# Altium integrated library NSC LDO.IntLib: 2590 symbols (part 4 of 64)
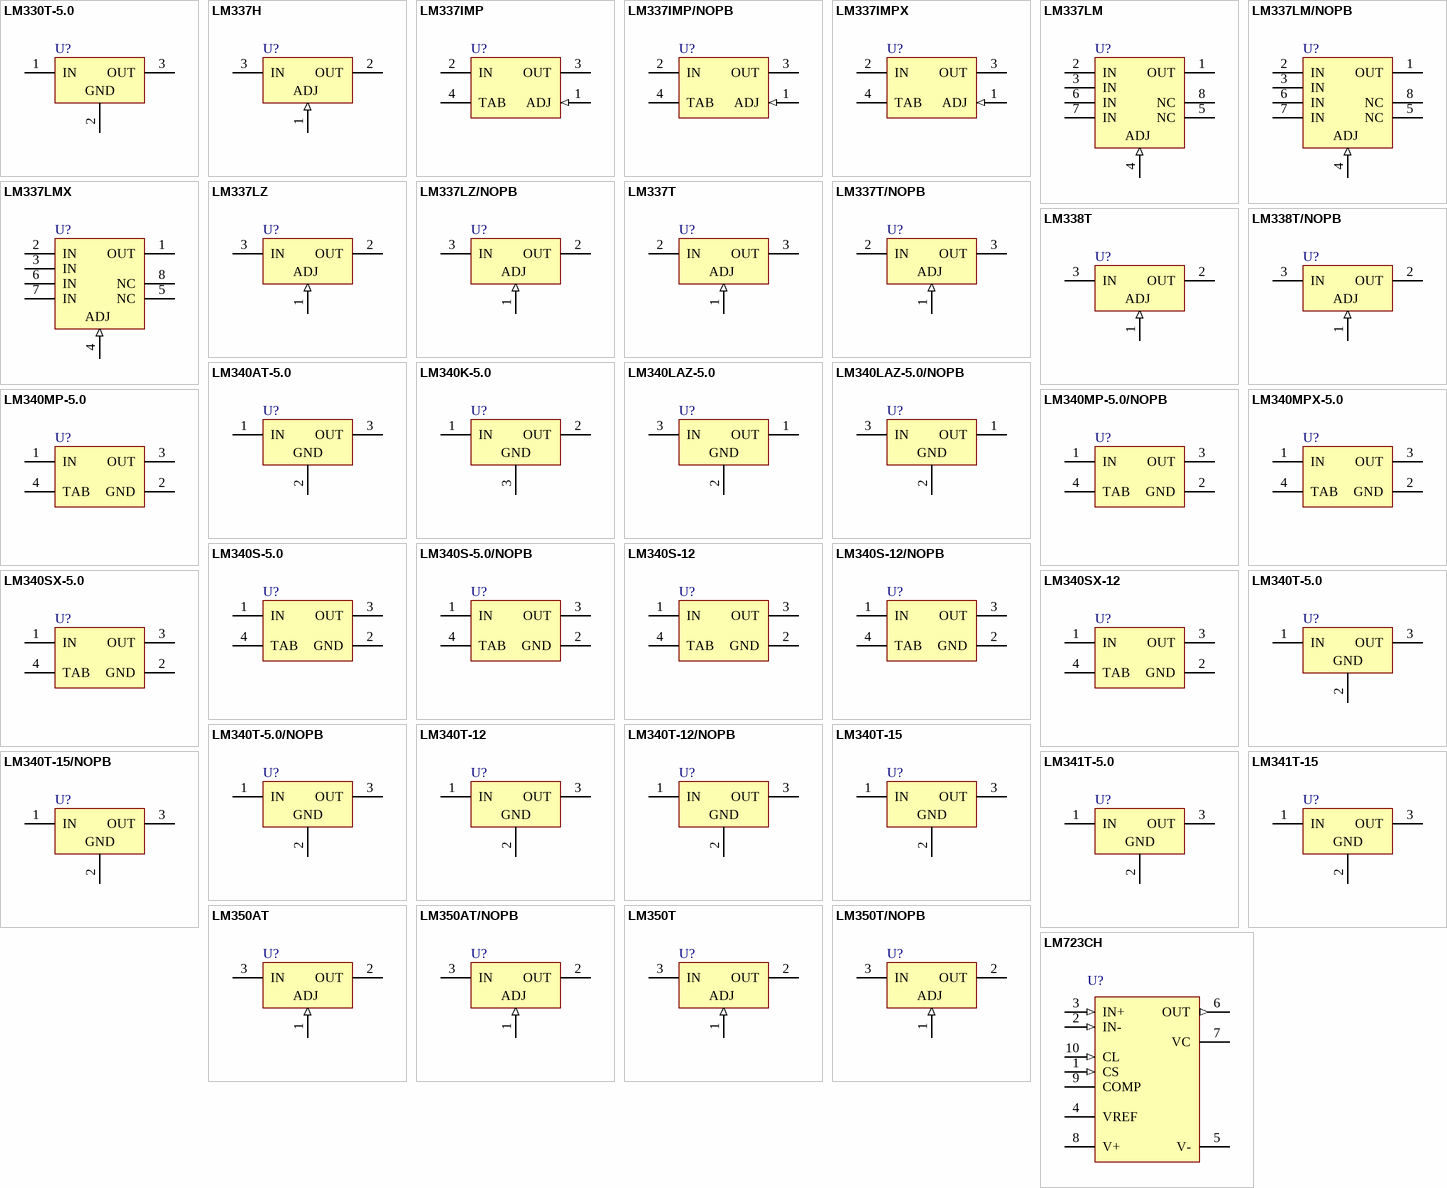
[diagram p68: symbols LM330T-5.0 to LM723CH]

## LM340S-12
designator U?
Series 3-Terminal Positive Regulators, 3-pin TO-263; PartNumber: LM340S-12; Manufacturer: National Semiconductor; PackageTopMarking: NSUZXYTTE#*LM340S*-12 P+; PowerWise: N; CompType: LDO IC; Published: 4-Dec-2008; DatasheetVersion: Jul-2006; PackageVersion: revF, Apr-2005; PackageReference: TS3B; Publisher: Altium Limited; PackageDescription: TO-263, Molded, .400 x .390 x .180in, 3 Lead, .1in Pitch, Surface Mount; Supplier 1: Farnell; Supplier Part Number 1: 9494499; RoHS: N; PinCount: 3; Code_JEDEC: MO-169-AA; ComponentLink1Description: LM340 Datasheet; ComponentLink1URL: http://www.national.com/ds/LM/LM340.pdf; ComponentLink2Description: LM340 Web Page; ComponentLink2URL: http://www.national.com/pf/LM/LM340.html; ComponentLink3Description: TS3B Package Page; ComponentLink3URL: http://www.national.com/packaging/folders/ts3b.html
footprint TS3B_N (D2-PAK, 4-Leads, Body 8.6x10.2mm, Pitch 2.54mm, Lead Span 14.2mm, IPC Medium Density)
footprint TS3B_L (D2-PAK, 4-Leads, Body 8.6x10.2mm, Pitch 2.54mm, Lead Span 14.2mm, IPC High Density)
footprint TS3B_M (D2-PAK, 4-Leads, Body 8.6x10.2mm, Pitch 2.54mm, Lead Span 14.2mm, IPC Low Density)
pins: 1 IN (power), 2 GND (power), 3 OUT (power), 4 TAB (power)

## LM340S-12/NOPB
designator U?
Series 3-Terminal Positive Regulators, 3-pin TO-263, Pb-Free; PartNumber: LM340S-12/NOPB; Manufacturer: National Semiconductor; PackageTopMarking: NSUZXYTTE#*LM340S*-12 P+; PowerWise: N; CompType: LDO IC; Published: 1-Mar-2010; DatasheetVersion: Jul-2006; PackageVersion: revF, Apr-2005; PackageReference: TS3B; Publisher: Altium Limited; PackageDescription: TO-263, Molded, .400 x .390 x .180in, 3 Lead, .1in Pitch, Surface Mount; Supplier 1: Digi-Key; Supplier Part Number 1: LM340S-12-ND; Supplier 2: Farnell; Supplier Part Number 2: 1364496; RoHS: Y; PinCount: 3; Code_JEDEC: MO-169-AA; ComponentLink1Description: LM340 Datasheet; ComponentLink1URL: http://www.national.com/ds/LM/LM340.pdf; ComponentLink2Description: LM340 Web Page; ComponentLink2URL: http://www.national.com/pf/LM/LM340.html; ComponentLink3Description: TS3B Package Page; ComponentLink3URL: http://www.national.com/packaging/folders/ts3b.html
footprint TS3B_N (D2-PAK, 4-Leads, Body 8.6x10.2mm, Pitch 2.54mm, Lead Span 14.2mm, IPC Medium Density)
footprint TS3B_L (D2-PAK, 4-Leads, Body 8.6x10.2mm, Pitch 2.54mm, Lead Span 14.2mm, IPC High Density)
footprint TS3B_M (D2-PAK, 4-Leads, Body 8.6x10.2mm, Pitch 2.54mm, Lead Span 14.2mm, IPC Low Density)
pins: 1 IN (power), 2 GND (power), 3 OUT (power), 4 TAB (power)

## LM340SX-5.0
designator U?
Series 3-Terminal Positive Regulators, 3-pin TO-263; PartNumber: LM340SX-5.0; Manufacturer: National Semiconductor; PackageTopMarking: NSUZXYTTE#*LM340S*-5.0 P+; PowerWise: N; CompType: LDO IC; Published: 1-Mar-2010; DatasheetVersion: Jul-2006; PackageVersion: revF, Apr-2005; PackageReference: TS3B; Publisher: Altium Limited; PackageDescription: TO-263, Molded, .400 x .390 x .180in, 3 Lead, .1in Pitch, Surface Mount; RoHS: N; PinCount: 3; Code_JEDEC: MO-169-AA; ComponentLink1Description: LM340 Datasheet; ComponentLink1URL: http://www.national.com/ds/LM/LM340.pdf; ComponentLink2Description: LM340 Web Page; ComponentLink2URL: http://www.national.com/pf/LM/LM340.html; ComponentLink3Description: TS3B Package Page; ComponentLink3URL: http://www.national.com/packaging/folders/ts3b.html
footprint TS3B_N (D2-PAK, 4-Leads, Body 8.6x10.2mm, Pitch 2.54mm, Lead Span 14.2mm, IPC Medium Density)
footprint TS3B_L (D2-PAK, 4-Leads, Body 8.6x10.2mm, Pitch 2.54mm, Lead Span 14.2mm, IPC High Density)
footprint TS3B_M (D2-PAK, 4-Leads, Body 8.6x10.2mm, Pitch 2.54mm, Lead Span 14.2mm, IPC Low Density)
pins: 1 IN (power), 2 GND (power), 3 OUT (power), 4 TAB (power)

## LM340SX-12
designator U?
Series 3-Terminal Positive Regulators, 3-pin TO-263; PartNumber: LM340SX-12; Manufacturer: National Semiconductor; PackageTopMarking: NSUZXYTTE#*LM340S*-12 P+; PowerWise: N; CompType: LDO IC; Published: 1-Mar-2010; DatasheetVersion: Jul-2006; PackageVersion: revF, Apr-2005; PackageReference: TS3B; Publisher: Altium Limited; PackageDescription: TO-263, Molded, .400 x .390 x .180in, 3 Lead, .1in Pitch, Surface Mount; RoHS: N; PinCount: 3; Code_JEDEC: MO-169-AA; ComponentLink1Description: LM340 Datasheet; ComponentLink1URL: http://www.national.com/ds/LM/LM340.pdf; ComponentLink2Description: LM340 Web Page; ComponentLink2URL: http://www.national.com/pf/LM/LM340.html; ComponentLink3Description: TS3B Package Page; ComponentLink3URL: http://www.national.com/packaging/folders/ts3b.html
footprint TS3B_N (D2-PAK, 4-Leads, Body 8.6x10.2mm, Pitch 2.54mm, Lead Span 14.2mm, IPC Medium Density)
footprint TS3B_L (D2-PAK, 4-Leads, Body 8.6x10.2mm, Pitch 2.54mm, Lead Span 14.2mm, IPC High Density)
footprint TS3B_M (D2-PAK, 4-Leads, Body 8.6x10.2mm, Pitch 2.54mm, Lead Span 14.2mm, IPC Low Density)
pins: 1 IN (power), 2 GND (power), 3 OUT (power), 4 TAB (power)

## LM340T-5.0
designator U?
Series 3-Terminal Positive Regulators, 3-pin TO-220; PartNumber: LM340T-5.0; Manufacturer: National Semiconductor; PackageTopMarking: NSUZXYTTE#*LM340T5*7805 P+; PowerWise: N; CompType: LDO IC; Published: 4-Dec-2008; DatasheetVersion: Jul-2006; PackageVersion: revL, Jan-1992; PackageReference: T03B; Publisher: Altium Limited; PackageDescription: TO-220, Molded, 3 Lead, Straight; Supplier 1: Farnell; Supplier Part Number 1: 9490175; RoHS: N; PinCount: 3; ComponentLink1Description: LM340 Datasheet; ComponentLink1URL: http://www.national.com/ds/LM/LM340.pdf; ComponentLink2Description: LM340 Web Page; ComponentLink2URL: http://www.national.com/pf/LM/LM340.html; ComponentLink3Description: T03B Package Page; ComponentLink3URL: http://www.national.com/packaging/folders/t03b.html
footprint T03B (TO, Thru-Hole, Vertical, Heatsink Mounted; 3 In-Line Leads; Pitch 2.54 mm)
pins: 1 IN (power), 2 GND (power), 3 OUT (power)

## LM340T-5.0/NOPB
designator U?
Series 3-Terminal Positive Regulators, 3-pin TO-220, Pb-Free; PartNumber: LM340T-5.0/NOPB; Manufacturer: National Semiconductor; PackageTopMarking: NSUZXYTTE#*LM340T5*7805 P+; PowerWise: N; CompType: LDO IC; Published: 1-Mar-2010; DatasheetVersion: Jul-2006; PackageVersion: revL, Jan-1992; PackageReference: T03B; Publisher: Altium Limited; PackageDescription: TO-220, Molded, 3 Lead, Straight; Supplier 1: Digi-Key; Supplier Part Number 1: LM340T-5.0-ND; Supplier 2: Farnell; Supplier Part Number 2: 1150201; RoHS: Y; PinCount: 3; ComponentLink1Description: LM340 Datasheet; ComponentLink1URL: http://www.national.com/ds/LM/LM340.pdf; ComponentLink2Description: LM340 Web Page; ComponentLink2URL: http://www.national.com/pf/LM/LM340.html; ComponentLink3Description: T03B Package Page; ComponentLink3URL: http://www.national.com/packaging/folders/t03b.html
footprint T03B (TO, Thru-Hole, Vertical, Heatsink Mounted; 3 In-Line Leads; Pitch 2.54 mm)
pins: 1 IN (power), 2 GND (power), 3 OUT (power)

## LM340T-12
designator U?
Series 3-Terminal Positive Regulators, 3-pin TO-220; PartNumber: LM340T-12; Manufacturer: National Semiconductor; PackageTopMarking: NSUZXYTTE#*LM340T12*7812 P+; PowerWise: N; CompType: LDO IC; Published: 4-Dec-2008; DatasheetVersion: Jul-2006; PackageVersion: revL, Jan-1992; PackageReference: T03B; Publisher: Altium Limited; PackageDescription: TO-220, Molded, 3 Lead, Straight; Supplier 1: Farnell; Supplier Part Number 1: 9490280; Supplier 2: Farnell; Supplier Part Number 2: 1523856; RoHS: N; PinCount: 3; ComponentLink1Description: LM340 Datasheet; ComponentLink1URL: http://www.national.com/ds/LM/LM340.pdf; ComponentLink2Description: LM340 Web Page; ComponentLink2URL: http://www.national.com/pf/LM/LM340.html; ComponentLink3Description: T03B Package Page; ComponentLink3URL: http://www.national.com/packaging/folders/t03b.html
footprint T03B (TO, Thru-Hole, Vertical, Heatsink Mounted; 3 In-Line Leads; Pitch 2.54 mm)
pins: 1 IN (power), 2 GND (power), 3 OUT (power)

## LM340T-12/NOPB
designator U?
Series 3-Terminal Positive Regulators, 3-pin TO-220, Pb-Free; PartNumber: LM340T-12/NOPB; Manufacturer: National Semiconductor; PackageTopMarking: NSUZXYTTE#*LM340T12*7812 P+; PowerWise: N; CompType: LDO IC; Published: 1-Mar-2010; DatasheetVersion: Jul-2006; PackageVersion: revL, Jan-1992; PackageReference: T03B; Publisher: Altium Limited; PackageDescription: TO-220, Molded, 3 Lead, Straight; Supplier 1: Digi-Key; Supplier Part Number 1: LM340T-12-ND; Supplier 2: Farnell; Supplier Part Number 2: 1564656; RoHS: Y; PinCount: 3; ComponentLink1Description: LM340 Datasheet; ComponentLink1URL: http://www.national.com/ds/LM/LM340.pdf; ComponentLink2Description: LM340 Web Page; ComponentLink2URL: http://www.national.com/pf/LM/LM340.html; ComponentLink3Description: T03B Package Page; ComponentLink3URL: http://www.national.com/packaging/folders/t03b.html
footprint T03B (TO, Thru-Hole, Vertical, Heatsink Mounted; 3 In-Line Leads; Pitch 2.54 mm)
pins: 1 IN (power), 2 GND (power), 3 OUT (power)

## LM340T-15
designator U?
Series 3-Terminal Positive Regulators, 3-pin TO-220; PartNumber: LM340T-15; Manufacturer: National Semiconductor; PackageTopMarking: NSUZXYTTE#*LM340T15*7815 P+; PowerWise: N; CompType: LDO IC; Published: 4-Dec-2008; DatasheetVersion: Jul-2006; PackageVersion: revL, Jan-1992; PackageReference: T03B; Publisher: Altium Limited; PackageDescription: TO-220, Molded, 3 Lead, Straight; Supplier 1: Farnell; Supplier Part Number 1: 9490329; Supplier 2: Farnell; Supplier Part Number 2: 1523857; RoHS: N; PinCount: 3; ComponentLink1Description: LM340 Datasheet; ComponentLink1URL: http://www.national.com/ds/LM/LM340.pdf; ComponentLink2Description: LM340 Web Page; ComponentLink2URL: http://www.national.com/pf/LM/LM340.html; ComponentLink3Description: T03B Package Page; ComponentLink3URL: http://www.national.com/packaging/folders/t03b.html
footprint T03B (TO, Thru-Hole, Vertical, Heatsink Mounted; 3 In-Line Leads; Pitch 2.54 mm)
pins: 1 IN (power), 2 GND (power), 3 OUT (power)

## LM340T-15/NOPB
designator U?
Series 3-Terminal Positive Regulators, 3-pin TO-220, Pb-Free; PartNumber: LM340T-15/NOPB; Manufacturer: National Semiconductor; PackageTopMarking: NSUZXYTTE#*LM340T15*7815 P+; PowerWise: N; CompType: LDO IC; Published: 1-Mar-2010; DatasheetVersion: Jul-2006; PackageVersion: revL, Jan-1992; PackageReference: T03B; Publisher: Altium Limited; PackageDescription: TO-220, Molded, 3 Lead, Straight; Supplier 1: Digi-Key; Supplier Part Number 1: LM340T-15-ND; Supplier 2: Farnell; Supplier Part Number 2: 1469098; RoHS: Y; PinCount: 3; ComponentLink1Description: LM340 Datasheet; ComponentLink1URL: http://www.national.com/ds/LM/LM340.pdf; ComponentLink2Description: LM340 Web Page; ComponentLink2URL: http://www.national.com/pf/LM/LM340.html; ComponentLink3Description: T03B Package Page; ComponentLink3URL: http://www.national.com/packaging/folders/t03b.html
footprint T03B (TO, Thru-Hole, Vertical, Heatsink Mounted; 3 In-Line Leads; Pitch 2.54 mm)
pins: 1 IN (power), 2 GND (power), 3 OUT (power)

## LM341T-5.0
designator U?
3-Terminal Positive Voltage Regulators, 3-pin TO-220; PartNumber: LM341T-5.0; Manufacturer: National Semiconductor; PackageTopMarking: NSUZXYTTE#*LM341T-5.0*LM78M05CT; PowerWise: N; CompType: LDO IC; Published: 4-Dec-2008; DatasheetVersion: Nov-2005; PackageVersion: revL, Jan-1992; PackageReference: T03B; Publisher: Altium Limited; PackageDescription: TO-220, Molded, 3 Lead, Straight; RoHS: N; PinCount: 3; ComponentLink1Description: LM341 Datasheet; ComponentLink1URL: http://www.national.com/ds/LM/LM341.pdf; ComponentLink2Description: LM341 Web Page; ComponentLink2URL: http://www.national.com/pf/LM/LM341.html; ComponentLink3Description: T03B Package Page; ComponentLink3URL: http://www.national.com/packaging/folders/t03b.html
footprint T03B (TO, Thru-Hole, Vertical, Heatsink Mounted; 3 In-Line Leads; Pitch 2.54 mm)
pins: 1 IN (power), 2 GND (power), 3 OUT (power)

## LM341T-15
designator U?
3-Terminal Positive Voltage Regulators, 3-pin TO-220; PartNumber: LM341T-15; Manufacturer: National Semiconductor; PackageTopMarking: NSUZXYTTE#*LM341T-15*LM78M15CT; PowerWise: N; CompType: LDO IC; Published: 4-Dec-2008; DatasheetVersion: Nov-2005; PackageVersion: revL, Jan-1992; PackageReference: T03B; Publisher: Altium Limited; PackageDescription: TO-220, Molded, 3 Lead, Straight; RoHS: N; PinCount: 3; ComponentLink1Description: LM341 Datasheet; ComponentLink1URL: http://www.national.com/ds/LM/LM341.pdf; ComponentLink2Description: LM341 Web Page; ComponentLink2URL: http://www.national.com/pf/LM/LM341.html; ComponentLink3Description: T03B Package Page; ComponentLink3URL: http://www.national.com/packaging/folders/t03b.html
footprint T03B (TO, Thru-Hole, Vertical, Heatsink Mounted; 3 In-Line Leads; Pitch 2.54 mm)
pins: 1 IN (power), 2 GND (power), 3 OUT (power)

## LM350AT
designator U?
3-Amp Adjustable Regulator, 3-pin TO-220; PartNumber: LM350AT; Manufacturer: National Semiconductor; PackageTopMarking: NSUZXYTTE#*LM350AT*P+; PowerWise: N; CompType: LDO IC; Published: 4-Dec-2008; DatasheetVersion: May-1998; PackageVersion: revL, Jan-1992; PackageReference: T03B; Publisher: Altium Limited; PackageDescription: TO-220, Molded, 3 Lead, Straight; Supplier 1: Farnell; Supplier Part Number 1: 4466895; RoHS: N; PinCount: 3; ComponentLink1Description: LM350A Datasheet; ComponentLink1URL: http://www.national.com/ds/LM/LM350.pdf; ComponentLink2Description: LM350A Web Page; ComponentLink2URL: http://www.national.com/pf/LM/LM350A.html; ComponentLink3Description: T03B Package Page; ComponentLink3URL: http://www.national.com/packaging/folders/t03b.html
footprint T03B (TO, Thru-Hole, Vertical, Heatsink Mounted; 3 In-Line Leads; Pitch 2.54 mm)
pins: 1 ADJ (in), 2 OUT (power), 3 IN (power)

## LM350AT/NOPB
designator U?
3-Amp Adjustable Regulator, 3-pin TO-220, Pb-Free; PartNumber: LM350AT/NOPB; Manufacturer: National Semiconductor; PackageTopMarking: NSUZXYTTE#*LM350AT*P+; PowerWise: N; CompType: LDO IC; Published: 1-Mar-2010; DatasheetVersion: May-1998; PackageVersion: revL, Jan-1992; PackageReference: T03B; Publisher: Altium Limited; PackageDescription: TO-220, Molded, 3 Lead, Straight; Supplier 1: Digi-Key; Supplier Part Number 1: LM350AT-ND; Supplier 2: Farnell; Supplier Part Number 2: 1469103; RoHS: Y; PinCount: 3; ComponentLink1Description: LM350A Datasheet; ComponentLink1URL: http://www.national.com/ds/LM/LM350.pdf; ComponentLink2Description: LM350A Web Page; ComponentLink2URL: http://www.national.com/pf/LM/LM350A.html; ComponentLink3Description: T03B Package Page; ComponentLink3URL: http://www.national.com/packaging/folders/t03b.html
footprint T03B (TO, Thru-Hole, Vertical, Heatsink Mounted; 3 In-Line Leads; Pitch 2.54 mm)
pins: 1 ADJ (in), 2 OUT (power), 3 IN (power)

## LM350T
designator U?
3-Amp Adjustable Regulator, 3-pin TO-220; PartNumber: LM350T; Manufacturer: National Semiconductor; PackageTopMarking: NSUZXYTTE#*LM350T P+; PowerWise: N; CompType: LDO IC; Published: 4-Dec-2008; DatasheetVersion: May-1998; PackageVersion: revL, Jan-1992; PackageReference: T03B; Publisher: Altium Limited; PackageDescription: TO-220, Molded, 3 Lead, Straight; RoHS: N; PinCount: 3; ComponentLink1Description: LM350 Datasheet; ComponentLink1URL: http://www.national.com/ds/LM/LM350.pdf; ComponentLink2Description: LM350 Web Page; ComponentLink2URL: http://www.national.com/pf/LM/LM350.html; ComponentLink3Description: T03B Package Page; ComponentLink3URL: http://www.national.com/packaging/folders/t03b.html
footprint T03B (TO, Thru-Hole, Vertical, Heatsink Mounted; 3 In-Line Leads; Pitch 2.54 mm)
pins: 1 ADJ (in), 2 OUT (power), 3 IN (power)

## LM350T/NOPB
designator U?
3-Amp Adjustable Regulator, 3-pin TO-220, Pb-Free; PartNumber: LM350T/NOPB; Manufacturer: National Semiconductor; PackageTopMarking: NSUZXYTTE#*LM350T P+; PowerWise: N; CompType: LDO IC; Published: 1-Mar-2010; DatasheetVersion: May-1998; PackageVersion: revL, Jan-1992; PackageReference: T03B; Publisher: Altium Limited; PackageDescription: TO-220, Molded, 3 Lead, Straight; Supplier 1: Digi-Key; Supplier Part Number 1: LM350TNS-ND; Supplier 2: Farnell; Supplier Part Number 2: 1179736; RoHS: Y; PinCount: 3; ComponentLink1Description: LM350 Datasheet; ComponentLink1URL: http://www.national.com/ds/LM/LM350.pdf; ComponentLink2Description: LM350 Web Page; ComponentLink2URL: http://www.national.com/pf/LM/LM350.html; ComponentLink3Description: T03B Package Page; ComponentLink3URL: http://www.national.com/packaging/folders/t03b.html
footprint T03B (TO, Thru-Hole, Vertical, Heatsink Mounted; 3 In-Line Leads; Pitch 2.54 mm)
pins: 1 ADJ (in), 2 OUT (power), 3 IN (power)

## LM723CH
designator U?
Voltage Regulator, 10-pin TO-100; PartNumber: LM723CH; Manufacturer: National Semiconductor; PackageTopMarking: NSZXYTTE# LM723CH; PowerWise: N; CompType: LDO IC; High-Reliability: Y; Published: 4-Dec-2008; DatasheetVersion: Jun-1999; PackageVersion: revG, Nov-2008; PackageReference: H10C; Publisher: Altium Limited; PackageDescription: Metal Can, TO-100, 10 Lead, .230in Dia, P.C.; Supplier 1: Farnell; Supplier Part Number 1: 1215191; RoHS: N; PinCount: 10; ComponentLink1Description: LM723C Datasheet; ComponentLink1URL: http://www.national.com/ds/LM/LM723C.pdf; ComponentLink2Description: LM723C Web Page; ComponentLink2URL: http://www.national.com/pf/LM/LM723C.html; ComponentLink3Description: H10C Package Page; ComponentLink3URL: http://www.national.com/packaging/folders/h10c.html
footprint H10C (Can; 10 Leads; Pin Circle Dia. 5.84 mm; Lead Dia. 0.48 mm (max))
pins: 1 CS (in), 2 IN- (in), 3 IN+ (in), 4 VREF (power), 5 V- (power), 6 OUT (out), 7 VC (power), 8 V+ (power), 9 COMP, 10 CL (in)

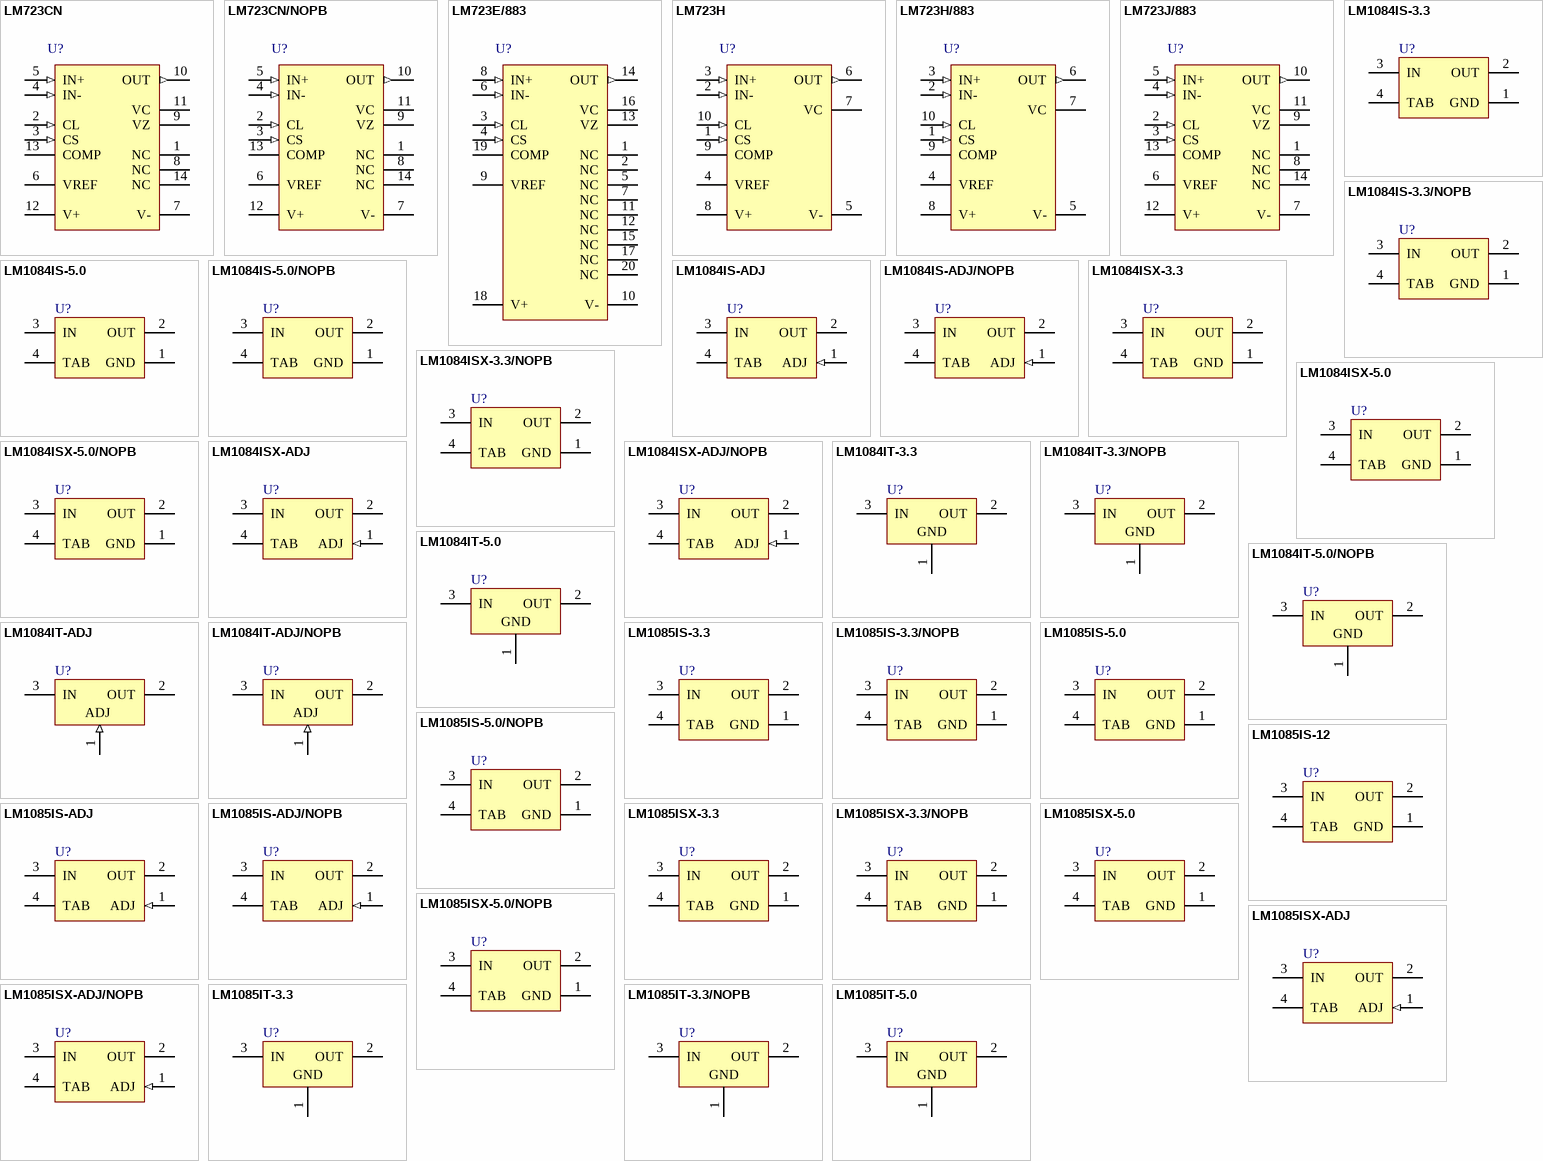
[diagram p4: symbols LM723CN to LM1085IT-5.0]

## LM723CN
designator U?
Voltage Regulator, 14-pin MDIP; PartNumber: LM723CN; Manufacturer: National Semiconductor; PackageTopMarking: NSUZXYYTTE#*LM723CN; PowerWise: N; CompType: LDO IC; Published: 4-Dec-2008; DatasheetVersion: Jun-1999; PackageVersion: revG, May-2006; PackageReference: N14A; Publisher: Altium Limited; PackageDescription: MDIP, .750 x .250 x.130in, 14 Lead, .100in Pitch; Supplier 1: Farnell; Supplier Part Number 1: 9489355; RoHS: N; PinCount: 14; Code_JEDEC: MS-001-AA; ComponentLink1Description: LM723C Datasheet; ComponentLink1URL: http://www.national.com/ds/LM/LM723C.pdf; ComponentLink2Description: LM723C Web Page; ComponentLink2URL: http://www.national.com/pf/LM/LM723C.html; ComponentLink3Description: N14A Package Page; ComponentLink3URL: http://www.national.com/packaging/folders/n14a.html
footprint N14A (DIP, 14-Leads, Row Spacing 7.62mm, Pitch 2.54mm, Body 19.56x6.35mm)
pins: 1 NC, 2 CL (in), 3 CS (in), 4 IN- (in), 5 IN+ (in), 6 VREF (power), 7 V- (power), 8 NC, 9 VZ (power), 10 OUT (out), 11 VC (power), 12 V+ (power), 13 COMP, 14 NC

## LM723CN/NOPB
designator U?
Voltage Regulator, 14-pin MDIP, Pb-Free; PartNumber: LM723CN/NOPB; Manufacturer: National Semiconductor; PackageTopMarking: NSUZXYYTTE#*LM723CN; PowerWise: N; CompType: LDO IC; Published: 1-Mar-2010; DatasheetVersion: Jun-1999; PackageVersion: revG, May-2006; PackageReference: N14A; Publisher: Altium Limited; PackageDescription: MDIP, .750 x .250 x.130in, 14 Lead, .100in Pitch; Supplier 1: Digi-Key; Supplier Part Number 1: LM723CNNS-ND; Supplier 2: Farnell; Supplier Part Number 2: 1179753; RoHS: Y; PinCount: 14; Code_JEDEC: MS-001-AA; ComponentLink1Description: LM723C Datasheet; ComponentLink1URL: http://www.national.com/ds/LM/LM723C.pdf; ComponentLink2Description: LM723C Web Page; ComponentLink2URL: http://www.national.com/pf/LM/LM723C.html; ComponentLink3Description: N14A Package Page; ComponentLink3URL: http://www.national.com/packaging/folders/n14a.html
footprint N14A (DIP, 14-Leads, Row Spacing 7.62mm, Pitch 2.54mm, Body 19.56x6.35mm)
pins: 1 NC, 2 CL (in), 3 CS (in), 4 IN- (in), 5 IN+ (in), 6 VREF (power), 7 V- (power), 8 NC, 9 VZ (power), 10 OUT (out), 11 VC (power), 12 V+ (power), 13 COMP, 14 NC

## LM723E/883
designator U?
Voltage Regulator, 20-pin LCC; PartNumber: LM723E/883; Manufacturer: National Semiconductor; PackageTopMarking: NSZSSXXYYA*LM723E/883*Q; PowerWise: N; CompType: LDO IC; High-Reliability: Y; Published: 4-Dec-2008; DatasheetVersion: Jun-1999; PackageVersion: revF, May-2004; PackageReference: E20A; Publisher: Altium Limited; PackageDescription: Leadless Chip Carrier, Type C, 20 Terminal; RoHS: N; PinCount: 20; Code_JEDEC: MS-004-CB; ComponentLink1Description: LM723 Datasheet; ComponentLink1URL: http://www.national.com/ds/LM/LM723QML.pdf; ComponentLink2Description: LM723 Web Page; ComponentLink2URL: http://www.national.com/pf/LM/LM723.html; ComponentLink3Description: E20A Package Page; ComponentLink3URL: http://www.national.com/packaging/folders/e20a.html
footprint E20A_N (Leadless Chip Carrier, 20-Leads, Body 8.9x8.9mm, Pitch 1.27mm, IPC Medium Density)
footprint E20A_L (Leadless Chip Carrier, 20-Leads, Body 8.9x8.9mm, Pitch 1.27mm, IPC High Density)
footprint E20A_M (Leadless Chip Carrier, 20-Leads, Body 8.9x8.9mm, Pitch 1.27mm, IPC Low Density)
pins: 1 NC, 2 NC, 3 CL (in), 4 CS (in), 5 NC, 6 IN- (in), 7 NC, 8 IN+ (in), 9 VREF (power), 10 V- (power), 11 NC, 12 NC, 13 VZ (power), 14 OUT (out), 15 NC, 16 VC (power), 17 NC, 18 V+ (power), 19 COMP, 20 NC

## LM723H
designator U?
Voltage Regulator, 10-pin TO-100; PartNumber: LM723H; Manufacturer: National Semiconductor; PackageTopMarking: NSZXYTTE# LM723H; PowerWise: N; CompType: LDO IC; High-Reliability: Y; Published: 4-Dec-2008; DatasheetVersion: Jun-1999; PackageVersion: revG, Nov-2008; PackageReference: H10C; Publisher: Altium Limited; PackageDescription: Metal Can, TO-100, 10 Lead, .230in Dia, P.C.; Supplier 1: Farnell; Supplier Part Number 1: 1216174; RoHS: N; PinCount: 10; ComponentLink1Description: LM723 Datasheet; ComponentLink1URL: http://www.national.com/ds/LM/LM723.pdf; ComponentLink2Description: LM723 Web Page; ComponentLink2URL: http://www.national.com/pf/LM/LM723.html; ComponentLink3Description: H10C Package Page; ComponentLink3URL: http://www.national.com/packaging/folders/h10c.html
footprint H10C (Can; 10 Leads; Pin Circle Dia. 5.84 mm; Lead Dia. 0.48 mm (max))
pins: 1 CS (in), 2 IN- (in), 3 IN+ (in), 4 VREF (power), 5 V- (power), 6 OUT (out), 7 VC (power), 8 V+ (power), 9 COMP, 10 CL (in)

## LM723H/883
designator U?
Voltage Regulator, 10-pin TO-100; PartNumber: LM723H/883; Manufacturer: National Semiconductor; PackageTopMarking: NSZSSXXYYA LM723H/883 Q; PowerWise: N; CompType: LDO IC; High-Reliability: Y; Published: 4-Dec-2008; DatasheetVersion: Jun-1999; PackageVersion: revG, Nov-2008; PackageReference: H10C; Publisher: Altium Limited; PackageDescription: Metal Can, TO-100, 10 Lead, .230in Dia, P.C.; RoHS: N; PinCount: 10; ComponentLink1Description: LM723 Datasheet; ComponentLink1URL: http://www.national.com/ds/LM/LM723QML.pdf; ComponentLink2Description: LM723 Web Page; ComponentLink2URL: http://www.national.com/pf/LM/LM723.html; ComponentLink3Description: H10C Package Page; ComponentLink3URL: http://www.national.com/packaging/folders/h10c.html
footprint H10C (Can; 10 Leads; Pin Circle Dia. 5.84 mm; Lead Dia. 0.48 mm (max))
pins: 1 CS (in), 2 IN- (in), 3 IN+ (in), 4 VREF (power), 5 V- (power), 6 OUT (out), 7 VC (power), 8 V+ (power), 9 COMP, 10 CL (in)

## LM723J/883
designator U?
Voltage Regulator, 14-pin CerDIP; PartNumber: LM723J/883; Manufacturer: National Semiconductor; PackageTopMarking: NSZSSXXYYA*LM723J/883 Q; PowerWise: N; CompType: LDO IC; High-Reliability: Y; Published: 4-Dec-2008; DatasheetVersion: Jun-1999; PackageVersion: revJ, Jul-2002; PackageReference: J14A; Publisher: Altium Limited; PackageDescription: Cerdip, .400 x .310in Body, 14 Lead, .300in Centers, .100in Pitch; RoHS: N; PinCount: 14; ComponentLink1Description: LM723 Datasheet; ComponentLink1URL: http://www.national.com/ds/LM/LM723QML.pdf; ComponentLink2Description: LM723 Web Page; ComponentLink2URL: http://www.national.com/pf/LM/LM723.html; ComponentLink3Description: J14A Package Page; ComponentLink3URL: http://www.national.com/packaging/folders/j14a.html
footprint J14A (DIP, 14-Leads, Row Spacing 7.62mm, Pitch 2.54mm, Body 19.56x6.73mm)
pins: 1 NC, 2 CL (in), 3 CS (in), 4 IN- (in), 5 IN+ (in), 6 VREF (power), 7 V- (power), 8 NC, 9 VZ (power), 10 OUT (out), 11 VC (power), 12 V+ (power), 13 COMP, 14 NC

## LM1084IS-3.3
designator U?
5A Low Dropout Positive Regulators, 3-pin TO-263; PartNumber: LM1084IS-3.3; Manufacturer: National Semiconductor; PackageTopMarking: NSUZXYTTE#*LM1084*IS-3.3; PowerWise: N; CompType: LDO IC; Published: 4-Dec-2008; DatasheetVersion: Jun-2005; PackageVersion: revF, Apr-2005; PackageReference: TS3B; Publisher: Altium Limited; PackageDescription: TO-263, Molded, .400 x .390 x .180in, 3 Lead, .1in Pitch, Surface Mount; Supplier 1: Farnell; Supplier Part Number 1: 7613994; RoHS: N; PinCount: 3; Code_JEDEC: MO-169-AA; ComponentLink1Description: LM1084 Datasheet; ComponentLink1URL: http://www.national.com/ds/LM/LM1084.pdf; ComponentLink2Description: LM1084 Web Page; ComponentLink2URL: http://www.national.com/pf/LM/LM1084.html; ComponentLink3Description: TS3B Package Page; ComponentLink3URL: http://www.national.com/packaging/folders/ts3b.html
footprint TS3B_N (D2-PAK, 4-Leads, Body 8.6x10.2mm, Pitch 2.54mm, Lead Span 14.2mm, IPC Medium Density)
footprint TS3B_L (D2-PAK, 4-Leads, Body 8.6x10.2mm, Pitch 2.54mm, Lead Span 14.2mm, IPC High Density)
footprint TS3B_M (D2-PAK, 4-Leads, Body 8.6x10.2mm, Pitch 2.54mm, Lead Span 14.2mm, IPC Low Density)
pins: 1 GND (power), 2 OUT (power), 3 IN (power), 4 TAB (power)

## LM1084IS-3.3/NOPB
designator U?
5A Low Dropout Positive Regulators, 3-pin TO-263, Pb-Free; PartNumber: LM1084IS-3.3/NOPB; Manufacturer: National Semiconductor; PackageTopMarking: NSUZXYTTE#*LM1084*IS-3.3; PowerWise: N; CompType: LDO IC; Published: 1-Mar-2010; DatasheetVersion: Jun-2005; PackageVersion: revF, Apr-2005; PackageReference: TS3B; Publisher: Altium Limited; PackageDescription: TO-263, Molded, .400 x .390 x .180in, 3 Lead, .1in Pitch, Surface Mount; Supplier 1: Digi-Key; Supplier Part Number 1: LM1084IS-3.3-ND; Supplier 2: Farnell; Supplier Part Number 2: 1564625; RoHS: Y; PinCount: 3; Code_JEDEC: MO-169-AA; ComponentLink1Description: LM1084 Datasheet; ComponentLink1URL: http://www.national.com/ds/LM/LM1084.pdf; ComponentLink2Description: LM1084 Web Page; ComponentLink2URL: http://www.national.com/pf/LM/LM1084.html; ComponentLink3Description: TS3B Package Page; ComponentLink3URL: http://www.national.com/packaging/folders/ts3b.html
footprint TS3B_N (D2-PAK, 4-Leads, Body 8.6x10.2mm, Pitch 2.54mm, Lead Span 14.2mm, IPC Medium Density)
footprint TS3B_L (D2-PAK, 4-Leads, Body 8.6x10.2mm, Pitch 2.54mm, Lead Span 14.2mm, IPC High Density)
footprint TS3B_M (D2-PAK, 4-Leads, Body 8.6x10.2mm, Pitch 2.54mm, Lead Span 14.2mm, IPC Low Density)
pins: 1 GND (power), 2 OUT (power), 3 IN (power), 4 TAB (power)

## LM1084IS-5.0
designator U?
5A Low Dropout Positive Regulators, 3-pin TO-263; PartNumber: LM1084IS-5.0; Manufacturer: National Semiconductor; PackageTopMarking: NSUZXYTTE#*LM1084*IS-5.0; PowerWise: N; CompType: LDO IC; Published: 4-Dec-2008; DatasheetVersion: Jun-2005; PackageVersion: revF, Apr-2005; PackageReference: TS3B; Publisher: Altium Limited; PackageDescription: TO-263, Molded, .400 x .390 x .180in, 3 Lead, .1in Pitch, Surface Mount; RoHS: N; PinCount: 3; Code_JEDEC: MO-169-AA; ComponentLink1Description: LM1084 Datasheet; ComponentLink1URL: http://www.national.com/ds/LM/LM1084.pdf; ComponentLink2Description: LM1084 Web Page; ComponentLink2URL: http://www.national.com/pf/LM/LM1084.html; ComponentLink3Description: TS3B Package Page; ComponentLink3URL: http://www.national.com/packaging/folders/ts3b.html
footprint TS3B_N (D2-PAK, 4-Leads, Body 8.6x10.2mm, Pitch 2.54mm, Lead Span 14.2mm, IPC Medium Density)
footprint TS3B_L (D2-PAK, 4-Leads, Body 8.6x10.2mm, Pitch 2.54mm, Lead Span 14.2mm, IPC High Density)
footprint TS3B_M (D2-PAK, 4-Leads, Body 8.6x10.2mm, Pitch 2.54mm, Lead Span 14.2mm, IPC Low Density)
pins: 1 GND (power), 2 OUT (power), 3 IN (power), 4 TAB (power)

## LM1084IS-5.0/NOPB
designator U?
5A Low Dropout Positive Regulators, 3-pin TO-263, Pb-Free; PartNumber: LM1084IS-5.0/NOPB; Manufacturer: National Semiconductor; PackageTopMarking: NSUZXYTTE#*LM1084*IS-5.0; PowerWise: N; CompType: LDO IC; Published: 1-Mar-2010; DatasheetVersion: Jun-2005; PackageVersion: revF, Apr-2005; PackageReference: TS3B; Publisher: Altium Limited; PackageDescription: TO-263, Molded, .400 x .390 x .180in, 3 Lead, .1in Pitch, Surface Mount; Supplier 1: Digi-Key; Supplier Part Number 1: LM1084IS-5.0-ND; Supplier 2: Farnell; Supplier Part Number 2: 1469035; RoHS: Y; PinCount: 3; Code_JEDEC: MO-169-AA; ComponentLink1Description: LM1084 Datasheet; ComponentLink1URL: http://www.national.com/ds/LM/LM1084.pdf; ComponentLink2Description: LM1084 Web Page; ComponentLink2URL: http://www.national.com/pf/LM/LM1084.html; ComponentLink3Description: TS3B Package Page; ComponentLink3URL: http://www.national.com/packaging/folders/ts3b.html
footprint TS3B_N (D2-PAK, 4-Leads, Body 8.6x10.2mm, Pitch 2.54mm, Lead Span 14.2mm, IPC Medium Density)
footprint TS3B_L (D2-PAK, 4-Leads, Body 8.6x10.2mm, Pitch 2.54mm, Lead Span 14.2mm, IPC High Density)
footprint TS3B_M (D2-PAK, 4-Leads, Body 8.6x10.2mm, Pitch 2.54mm, Lead Span 14.2mm, IPC Low Density)
pins: 1 GND (power), 2 OUT (power), 3 IN (power), 4 TAB (power)

## LM1084IS-ADJ
designator U?
5A Low Dropout Positive Regulators, 3-pin TO-263; PartNumber: LM1084IS-ADJ; Manufacturer: National Semiconductor; PackageTopMarking: NSUZXYTTE#*LM1084*IS-ADJ; PowerWise: N; CompType: LDO IC; Published: 4-Dec-2008; DatasheetVersion: Jun-2005; PackageVersion: revF, Apr-2005; PackageReference: TS3B; Publisher: Altium Limited; PackageDescription: TO-263, Molded, .400 x .390 x .180in, 3 Lead, .1in Pitch, Surface Mount; Supplier 1: Farnell; Supplier Part Number 1: 7613970; RoHS: N; PinCount: 3; Code_JEDEC: MO-169-AA; ComponentLink1Description: LM1084 Datasheet; ComponentLink1URL: http://www.national.com/ds/LM/LM1084.pdf; ComponentLink2Description: LM1084 Web Page; ComponentLink2URL: http://www.national.com/pf/LM/LM1084.html; ComponentLink3Description: TS3B Package Page; ComponentLink3URL: http://www.national.com/packaging/folders/ts3b.html
footprint TS3B_N (D2-PAK, 4-Leads, Body 8.6x10.2mm, Pitch 2.54mm, Lead Span 14.2mm, IPC Medium Density)
footprint TS3B_L (D2-PAK, 4-Leads, Body 8.6x10.2mm, Pitch 2.54mm, Lead Span 14.2mm, IPC High Density)
footprint TS3B_M (D2-PAK, 4-Leads, Body 8.6x10.2mm, Pitch 2.54mm, Lead Span 14.2mm, IPC Low Density)
pins: 1 ADJ (in), 2 OUT (power), 3 IN (power), 4 TAB (power)

## LM1084IS-ADJ/NOPB
designator U?
5A Low Dropout Positive Regulators, 3-pin TO-263, Pb-Free; PartNumber: LM1084IS-ADJ/NOPB; Manufacturer: National Semiconductor; PackageTopMarking: NSUZXYTTE#*LM1084*IS-ADJ; PowerWise: N; CompType: LDO IC; Published: 1-Mar-2010; DatasheetVersion: Jun-2005; PackageVersion: revF, Apr-2005; PackageReference: TS3B; Publisher: Altium Limited; PackageDescription: TO-263, Molded, .400 x .390 x .180in, 3 Lead, .1in Pitch, Surface Mount; Supplier 1: Digi-Key; Supplier Part Number 1: LM1084IS-ADJ-ND; Supplier 2: Farnell; Supplier Part Number 2: 1469033; RoHS: Y; PinCount: 3; Code_JEDEC: MO-169-AA; ComponentLink1Description: LM1084 Datasheet; ComponentLink1URL: http://www.national.com/ds/LM/LM1084.pdf; ComponentLink2Description: LM1084 Web Page; ComponentLink2URL: http://www.national.com/pf/LM/LM1084.html; ComponentLink3Description: TS3B Package Page; ComponentLink3URL: http://www.national.com/packaging/folders/ts3b.html
footprint TS3B_N (D2-PAK, 4-Leads, Body 8.6x10.2mm, Pitch 2.54mm, Lead Span 14.2mm, IPC Medium Density)
footprint TS3B_L (D2-PAK, 4-Leads, Body 8.6x10.2mm, Pitch 2.54mm, Lead Span 14.2mm, IPC High Density)
footprint TS3B_M (D2-PAK, 4-Leads, Body 8.6x10.2mm, Pitch 2.54mm, Lead Span 14.2mm, IPC Low Density)
pins: 1 ADJ (in), 2 OUT (power), 3 IN (power), 4 TAB (power)

## LM1084ISX-3.3
designator U?
5A Low Dropout Positive Regulators, 3-pin TO-263; PartNumber: LM1084ISX-3.3; Manufacturer: National Semiconductor; PackageTopMarking: NSUZXYTTE#*LM1084*IS-3.3; PowerWise: N; CompType: LDO IC; Published: 1-Mar-2010; DatasheetVersion: Jun-2005; PackageVersion: revF, Apr-2005; PackageReference: TS3B; Publisher: Altium Limited; PackageDescription: TO-263, Molded, .400 x .390 x .180in, 3 Lead, .1in Pitch, Surface Mount; RoHS: N; PinCount: 3; Code_JEDEC: MO-169-AA; ComponentLink1Description: LM1084 Datasheet; ComponentLink1URL: http://www.national.com/ds/LM/LM1084.pdf; ComponentLink2Description: LM1084 Web Page; ComponentLink2URL: http://www.national.com/pf/LM/LM1084.html; ComponentLink3Description: TS3B Package Page; ComponentLink3URL: http://www.national.com/packaging/folders/ts3b.html
footprint TS3B_N (D2-PAK, 4-Leads, Body 8.6x10.2mm, Pitch 2.54mm, Lead Span 14.2mm, IPC Medium Density)
footprint TS3B_L (D2-PAK, 4-Leads, Body 8.6x10.2mm, Pitch 2.54mm, Lead Span 14.2mm, IPC High Density)
footprint TS3B_M (D2-PAK, 4-Leads, Body 8.6x10.2mm, Pitch 2.54mm, Lead Span 14.2mm, IPC Low Density)
pins: 1 GND (power), 2 OUT (power), 3 IN (power), 4 TAB (power)

## LM1084ISX-3.3/NOPB
designator U?
5A Low Dropout Positive Regulators, 3-pin TO-263, Pb-Free; PartNumber: LM1084ISX-3.3/NOPB; Manufacturer: National Semiconductor; PackageTopMarking: NSUZXYTTE#*LM1084*IS-3.3; PowerWise: N; CompType: LDO IC; Published: 1-Mar-2010; DatasheetVersion: Jun-2005; PackageVersion: revF, Apr-2005; PackageReference: TS3B; Publisher: Altium Limited; PackageDescription: TO-263, Molded, .400 x .390 x .180in, 3 Lead, .1in Pitch, Surface Mount; Supplier 1: Digi-Key; Supplier Part Number 1: LM1084ISX-3.3-ND; RoHS: Y; PinCount: 3; Code_JEDEC: MO-169-AA; ComponentLink1Description: LM1084 Datasheet; ComponentLink1URL: http://www.national.com/ds/LM/LM1084.pdf; ComponentLink2Description: LM1084 Web Page; ComponentLink2URL: http://www.national.com/pf/LM/LM1084.html; ComponentLink3Description: TS3B Package Page; ComponentLink3URL: http://www.national.com/packaging/folders/ts3b.html
footprint TS3B_N (D2-PAK, 4-Leads, Body 8.6x10.2mm, Pitch 2.54mm, Lead Span 14.2mm, IPC Medium Density)
footprint TS3B_L (D2-PAK, 4-Leads, Body 8.6x10.2mm, Pitch 2.54mm, Lead Span 14.2mm, IPC High Density)
footprint TS3B_M (D2-PAK, 4-Leads, Body 8.6x10.2mm, Pitch 2.54mm, Lead Span 14.2mm, IPC Low Density)
pins: 1 GND (power), 2 OUT (power), 3 IN (power), 4 TAB (power)

## LM1084ISX-5.0
designator U?
5A Low Dropout Positive Regulators, 3-pin TO-263; PartNumber: LM1084ISX-5.0; Manufacturer: National Semiconductor; PackageTopMarking: NSUZXYTTE#*LM1084*IS-5.0; PowerWise: N; CompType: LDO IC; Published: 1-Mar-2010; DatasheetVersion: Jun-2005; PackageVersion: revF, Apr-2005; PackageReference: TS3B; Publisher: Altium Limited; PackageDescription: TO-263, Molded, .400 x .390 x .180in, 3 Lead, .1in Pitch, Surface Mount; RoHS: N; PinCount: 3; Code_JEDEC: MO-169-AA; ComponentLink1Description: LM1084 Datasheet; ComponentLink1URL: http://www.national.com/ds/LM/LM1084.pdf; ComponentLink2Description: LM1084 Web Page; ComponentLink2URL: http://www.national.com/pf/LM/LM1084.html; ComponentLink3Description: TS3B Package Page; ComponentLink3URL: http://www.national.com/packaging/folders/ts3b.html
footprint TS3B_N (D2-PAK, 4-Leads, Body 8.6x10.2mm, Pitch 2.54mm, Lead Span 14.2mm, IPC Medium Density)
footprint TS3B_L (D2-PAK, 4-Leads, Body 8.6x10.2mm, Pitch 2.54mm, Lead Span 14.2mm, IPC High Density)
footprint TS3B_M (D2-PAK, 4-Leads, Body 8.6x10.2mm, Pitch 2.54mm, Lead Span 14.2mm, IPC Low Density)
pins: 1 GND (power), 2 OUT (power), 3 IN (power), 4 TAB (power)

## LM1084ISX-5.0/NOPB
designator U?
5A Low Dropout Positive Regulators, 3-pin TO-263, Pb-Free; PartNumber: LM1084ISX-5.0/NOPB; Manufacturer: National Semiconductor; PackageTopMarking: NSUZXYTTE#*LM1084*IS-5.0; PowerWise: N; CompType: LDO IC; Published: 1-Mar-2010; DatasheetVersion: Jun-2005; PackageVersion: revF, Apr-2005; PackageReference: TS3B; Publisher: Altium Limited; PackageDescription: TO-263, Molded, .400 x .390 x .180in, 3 Lead, .1in Pitch, Surface Mount; Supplier 1: Digi-Key; Supplier Part Number 1: LM1084ISX-5.0-ND; RoHS: Y; PinCount: 3; Code_JEDEC: MO-169-AA; ComponentLink1Description: LM1084 Datasheet; ComponentLink1URL: http://www.national.com/ds/LM/LM1084.pdf; ComponentLink2Description: LM1084 Web Page; ComponentLink2URL: http://www.national.com/pf/LM/LM1084.html; ComponentLink3Description: TS3B Package Page; ComponentLink3URL: http://www.national.com/packaging/folders/ts3b.html
footprint TS3B_N (D2-PAK, 4-Leads, Body 8.6x10.2mm, Pitch 2.54mm, Lead Span 14.2mm, IPC Medium Density)
footprint TS3B_L (D2-PAK, 4-Leads, Body 8.6x10.2mm, Pitch 2.54mm, Lead Span 14.2mm, IPC High Density)
footprint TS3B_M (D2-PAK, 4-Leads, Body 8.6x10.2mm, Pitch 2.54mm, Lead Span 14.2mm, IPC Low Density)
pins: 1 GND (power), 2 OUT (power), 3 IN (power), 4 TAB (power)

## LM1084ISX-ADJ
designator U?
5A Low Dropout Positive Regulators, 3-pin TO-263; PartNumber: LM1084ISX-ADJ; Manufacturer: National Semiconductor; PackageTopMarking: NSUZXYTTE#*LM1084*IS-ADJ; PowerWise: N; CompType: LDO IC; Published: 1-Mar-2010; DatasheetVersion: Jun-2005; PackageVersion: revF, Apr-2005; PackageReference: TS3B; Publisher: Altium Limited; PackageDescription: TO-263, Molded, .400 x .390 x .180in, 3 Lead, .1in Pitch, Surface Mount; RoHS: N; PinCount: 3; Code_JEDEC: MO-169-AA; ComponentLink1Description: LM1084 Datasheet; ComponentLink1URL: http://www.national.com/ds/LM/LM1084.pdf; ComponentLink2Description: LM1084 Web Page; ComponentLink2URL: http://www.national.com/pf/LM/LM1084.html; ComponentLink3Description: TS3B Package Page; ComponentLink3URL: http://www.national.com/packaging/folders/ts3b.html
footprint TS3B_N (D2-PAK, 4-Leads, Body 8.6x10.2mm, Pitch 2.54mm, Lead Span 14.2mm, IPC Medium Density)
footprint TS3B_L (D2-PAK, 4-Leads, Body 8.6x10.2mm, Pitch 2.54mm, Lead Span 14.2mm, IPC High Density)
footprint TS3B_M (D2-PAK, 4-Leads, Body 8.6x10.2mm, Pitch 2.54mm, Lead Span 14.2mm, IPC Low Density)
pins: 1 ADJ (in), 2 OUT (power), 3 IN (power), 4 TAB (power)

## LM1084ISX-ADJ/NOPB
designator U?
5A Low Dropout Positive Regulators, 3-pin TO-263, Pb-Free; PartNumber: LM1084ISX-ADJ/NOPB; Manufacturer: National Semiconductor; PackageTopMarking: NSUZXYTTE#*LM1084*IS-ADJ; PowerWise: N; CompType: LDO IC; Published: 1-Mar-2010; DatasheetVersion: Jun-2005; PackageVersion: revF, Apr-2005; PackageReference: TS3B; Publisher: Altium Limited; PackageDescription: TO-263, Molded, .400 x .390 x .180in, 3 Lead, .1in Pitch, Surface Mount; Supplier 1: Digi-Key; Supplier Part Number 1: LM1084ISX-ADJ-ND; RoHS: Y; PinCount: 3; Code_JEDEC: MO-169-AA; ComponentLink1Description: LM1084 Datasheet; ComponentLink1URL: http://www.national.com/ds/LM/LM1084.pdf; ComponentLink2Description: LM1084 Web Page; ComponentLink2URL: http://www.national.com/pf/LM/LM1084.html; ComponentLink3Description: TS3B Package Page; ComponentLink3URL: http://www.national.com/packaging/folders/ts3b.html
footprint TS3B_N (D2-PAK, 4-Leads, Body 8.6x10.2mm, Pitch 2.54mm, Lead Span 14.2mm, IPC Medium Density)
footprint TS3B_L (D2-PAK, 4-Leads, Body 8.6x10.2mm, Pitch 2.54mm, Lead Span 14.2mm, IPC High Density)
footprint TS3B_M (D2-PAK, 4-Leads, Body 8.6x10.2mm, Pitch 2.54mm, Lead Span 14.2mm, IPC Low Density)
pins: 1 ADJ (in), 2 OUT (power), 3 IN (power), 4 TAB (power)

## LM1084IT-3.3
designator U?
5A Low Dropout Positive Regulators, 3-pin TO-220; PartNumber: LM1084IT-3.3; Manufacturer: National Semiconductor; PackageTopMarking: NSUZXYTTE#*LM1084*IT-3.3; PowerWise: N; CompType: LDO IC; Published: 4-Dec-2008; DatasheetVersion: Jun-2005; PackageVersion: revL, Jan-1992; PackageReference: T03B; Publisher: Altium Limited; PackageDescription: TO-220, Molded, 3 Lead, Straight; Supplier 1: Farnell; Supplier Part Number 1: 4975467; RoHS: N; PinCount: 3; ComponentLink1Description: LM1084 Datasheet; ComponentLink1URL: http://www.national.com/ds/LM/LM1084.pdf; ComponentLink2Description: LM1084 Web Page; ComponentLink2URL: http://www.national.com/pf/LM/LM1084.html; ComponentLink3Description: T03B Package Page; ComponentLink3URL: http://www.national.com/packaging/folders/t03b.html
footprint T03B (TO, Thru-Hole, Vertical, Heatsink Mounted; 3 In-Line Leads; Pitch 2.54 mm)
pins: 1 GND (power), 2 OUT (power), 3 IN (power)

## LM1084IT-3.3/NOPB
designator U?
5A Low Dropout Positive Regulators, 3-pin TO-220, Pb-Free; PartNumber: LM1084IT-3.3/NOPB; Manufacturer: National Semiconductor; PackageTopMarking: NSUZXYTTE#*LM1084*IT-3.3; PowerWise: N; CompType: LDO IC; Published: 1-Mar-2010; DatasheetVersion: Jun-2005; PackageVersion: revL, Jan-1992; PackageReference: T03B; Publisher: Altium Limited; PackageDescription: TO-220, Molded, 3 Lead, Straight; Supplier 1: Digi-Key; Supplier Part Number 1: LM1084IT-3.3-ND; Supplier 2: Farnell; Supplier Part Number 2: 1469037; RoHS: Y; PinCount: 3; ComponentLink1Description: LM1084 Datasheet; ComponentLink1URL: http://www.national.com/ds/LM/LM1084.pdf; ComponentLink2Description: LM1084 Web Page; ComponentLink2URL: http://www.national.com/pf/LM/LM1084.html; ComponentLink3Description: T03B Package Page; ComponentLink3URL: http://www.national.com/packaging/folders/t03b.html
footprint T03B (TO, Thru-Hole, Vertical, Heatsink Mounted; 3 In-Line Leads; Pitch 2.54 mm)
pins: 1 GND (power), 2 OUT (power), 3 IN (power)

## LM1084IT-5.0
designator U?
5A Low Dropout Positive Regulators, 3-pin TO-220; PartNumber: LM1084IT-5.0; Manufacturer: National Semiconductor; PackageTopMarking: NSUZXYTTE#*LM1084*IT-5.0; PowerWise: N; CompType: LDO IC; Published: 4-Dec-2008; DatasheetVersion: Jun-2005; PackageVersion: revL, Jan-1992; PackageReference: T03B; Publisher: Altium Limited; PackageDescription: TO-220, Molded, 3 Lead, Straight; Supplier 1: Farnell; Supplier Part Number 1: 8207291; RoHS: N; PinCount: 3; ComponentLink1Description: LM1084 Datasheet; ComponentLink1URL: http://www.national.com/ds/LM/LM1084.pdf; ComponentLink2Description: LM1084 Web Page; ComponentLink2URL: http://www.national.com/pf/LM/LM1084.html; ComponentLink3Description: T03B Package Page; ComponentLink3URL: http://www.national.com/packaging/folders/t03b.html
footprint T03B (TO, Thru-Hole, Vertical, Heatsink Mounted; 3 In-Line Leads; Pitch 2.54 mm)
pins: 1 GND (power), 2 OUT (power), 3 IN (power)

## LM1084IT-5.0/NOPB
designator U?
5A Low Dropout Positive Regulators, 3-pin TO-220, Pb-Free; PartNumber: LM1084IT-5.0/NOPB; Manufacturer: National Semiconductor; PackageTopMarking: NSUZXYTTE#*LM1084*IT-5.0; PowerWise: N; CompType: LDO IC; Published: 1-Mar-2010; DatasheetVersion: Jun-2005; PackageVersion: revL, Jan-1992; PackageReference: T03B; Publisher: Altium Limited; PackageDescription: TO-220, Molded, 3 Lead, Straight; Supplier 1: Digi-Key; Supplier Part Number 1: LM1084IT-5.0-ND; Supplier 2: Farnell; Supplier Part Number 2: 1263945; RoHS: Y; PinCount: 3; ComponentLink1Description: LM1084 Datasheet; ComponentLink1URL: http://www.national.com/ds/LM/LM1084.pdf; ComponentLink2Description: LM1084 Web Page; ComponentLink2URL: http://www.national.com/pf/LM/LM1084.html; ComponentLink3Description: T03B Package Page; ComponentLink3URL: http://www.national.com/packaging/folders/t03b.html
footprint T03B (TO, Thru-Hole, Vertical, Heatsink Mounted; 3 In-Line Leads; Pitch 2.54 mm)
pins: 1 GND (power), 2 OUT (power), 3 IN (power)

## LM1084IT-ADJ
designator U?
5A Low Dropout Positive Regulators, 3-pin TO-220; PartNumber: LM1084IT-ADJ; Manufacturer: National Semiconductor; PackageTopMarking: NSUZXYTTE#*LM1084*IT-ADJ; PowerWise: N; CompType: LDO IC; Published: 4-Dec-2008; DatasheetVersion: Jun-2005; PackageVersion: revL, Jan-1992; PackageReference: T03B; Publisher: Altium Limited; PackageDescription: TO-220, Molded, 3 Lead, Straight; Supplier 1: Farnell; Supplier Part Number 1: 7610087; RoHS: N; PinCount: 3; ComponentLink1Description: LM1084 Datasheet; ComponentLink1URL: http://www.national.com/ds/LM/LM1084.pdf; ComponentLink2Description: LM1084 Web Page; ComponentLink2URL: http://www.national.com/pf/LM/LM1084.html; ComponentLink3Description: T03B Package Page; ComponentLink3URL: http://www.national.com/packaging/folders/t03b.html
footprint T03B (TO, Thru-Hole, Vertical, Heatsink Mounted; 3 In-Line Leads; Pitch 2.54 mm)
pins: 1 ADJ (in), 2 OUT (power), 3 IN (power)

## LM1084IT-ADJ/NOPB
designator U?
5A Low Dropout Positive Regulators, 3-pin TO-220, Pb-Free; PartNumber: LM1084IT-ADJ/NOPB; Manufacturer: National Semiconductor; PackageTopMarking: NSUZXYTTE#*LM1084*IT-ADJ; PowerWise: N; CompType: LDO IC; Published: 1-Mar-2010; DatasheetVersion: Jun-2005; PackageVersion: revL, Jan-1992; PackageReference: T03B; Publisher: Altium Limited; PackageDescription: TO-220, Molded, 3 Lead, Straight; Supplier 1: Digi-Key; Supplier Part Number 1: LM1084IT-ADJ-ND; Supplier 2: Farnell; Supplier Part Number 2: 1685484; RoHS: Y; PinCount: 3; ComponentLink1Description: LM1084 Datasheet; ComponentLink1URL: http://www.national.com/ds/LM/LM1084.pdf; ComponentLink2Description: LM1084 Web Page; ComponentLink2URL: http://www.national.com/pf/LM/LM1084.html; ComponentLink3Description: T03B Package Page; ComponentLink3URL: http://www.national.com/packaging/folders/t03b.html
footprint T03B (TO, Thru-Hole, Vertical, Heatsink Mounted; 3 In-Line Leads; Pitch 2.54 mm)
pins: 1 ADJ (in), 2 OUT (power), 3 IN (power)

## LM1085IS-3.3
designator U?
3A Low Dropout Positive Regulators, 3-pin TO-263; PartNumber: LM1085IS-3.3; Manufacturer: National Semiconductor; PackageTopMarking: NSUZXYTTE#*LM1085*IS-3.3; PowerWise: N; CompType: LDO IC; Published: 4-Dec-2008; DatasheetVersion: Jun-2005; PackageVersion: revF, Apr-2005; PackageReference: TS3B; Publisher: Altium Limited; PackageDescription: TO-263, Molded, .400 x .390 x .180in, 3 Lead, .1in Pitch, Surface Mount; Supplier 1: Farnell; Supplier Part Number 1: 4975479; RoHS: N; PinCount: 3; Code_JEDEC: MO-169-AA; ComponentLink1Description: LM1085 Datasheet; ComponentLink1URL: http://www.national.com/ds/LM/LM1085.pdf; ComponentLink2Description: LM1085 Web Page; ComponentLink2URL: http://www.national.com/pf/LM/LM1085.html; ComponentLink3Description: TS3B Package Page; ComponentLink3URL: http://www.national.com/packaging/folders/ts3b.html
footprint TS3B_N (D2-PAK, 4-Leads, Body 8.6x10.2mm, Pitch 2.54mm, Lead Span 14.2mm, IPC Medium Density)
footprint TS3B_L (D2-PAK, 4-Leads, Body 8.6x10.2mm, Pitch 2.54mm, Lead Span 14.2mm, IPC High Density)
footprint TS3B_M (D2-PAK, 4-Leads, Body 8.6x10.2mm, Pitch 2.54mm, Lead Span 14.2mm, IPC Low Density)
pins: 1 GND (power), 2 OUT (power), 3 IN (power), 4 TAB (power)

## LM1085IS-3.3/NOPB
designator U?
3A Low Dropout Positive Regulators, 3-pin TO-263, Pb-Free; PartNumber: LM1085IS-3.3/NOPB; Manufacturer: National Semiconductor; PackageTopMarking: NSUZXYTTE#*LM1085*IS-3.3; PowerWise: N; CompType: LDO IC; Published: 1-Mar-2010; DatasheetVersion: Jun-2005; PackageVersion: revF, Apr-2005; PackageReference: TS3B; Publisher: Altium Limited; PackageDescription: TO-263, Molded, .400 x .390 x .180in, 3 Lead, .1in Pitch, Surface Mount; Supplier 1: Digi-Key; Supplier Part Number 1: LM1085IS-3.3-ND; Supplier 2: Farnell; Supplier Part Number 2: 1469039; RoHS: Y; PinCount: 3; Code_JEDEC: MO-169-AA; ComponentLink1Description: LM1085 Datasheet; ComponentLink1URL: http://www.national.com/ds/LM/LM1085.pdf; ComponentLink2Description: LM1085 Web Page; ComponentLink2URL: http://www.national.com/pf/LM/LM1085.html; ComponentLink3Description: TS3B Package Page; ComponentLink3URL: http://www.national.com/packaging/folders/ts3b.html
footprint TS3B_N (D2-PAK, 4-Leads, Body 8.6x10.2mm, Pitch 2.54mm, Lead Span 14.2mm, IPC Medium Density)
footprint TS3B_L (D2-PAK, 4-Leads, Body 8.6x10.2mm, Pitch 2.54mm, Lead Span 14.2mm, IPC High Density)
footprint TS3B_M (D2-PAK, 4-Leads, Body 8.6x10.2mm, Pitch 2.54mm, Lead Span 14.2mm, IPC Low Density)
pins: 1 GND (power), 2 OUT (power), 3 IN (power), 4 TAB (power)

## LM1085IS-5.0
designator U?
3A Low Dropout Positive Regulators, 3-pin TO-263; PartNumber: LM1085IS-5.0; Manufacturer: National Semiconductor; PackageTopMarking: NSUZXYTTE#*LM1085*IS-5.0; PowerWise: N; CompType: LDO IC; Published: 4-Dec-2008; DatasheetVersion: Jun-2005; PackageVersion: revF, Apr-2005; PackageReference: TS3B; Publisher: Altium Limited; PackageDescription: TO-263, Molded, .400 x .390 x .180in, 3 Lead, .1in Pitch, Surface Mount; RoHS: N; PinCount: 3; Code_JEDEC: MO-169-AA; ComponentLink1Description: LM1085 Datasheet; ComponentLink1URL: http://www.national.com/ds/LM/LM1085.pdf; ComponentLink2Description: LM1085 Web Page; ComponentLink2URL: http://www.national.com/pf/LM/LM1085.html; ComponentLink3Description: TS3B Package Page; ComponentLink3URL: http://www.national.com/packaging/folders/ts3b.html
footprint TS3B_N (D2-PAK, 4-Leads, Body 8.6x10.2mm, Pitch 2.54mm, Lead Span 14.2mm, IPC Medium Density)
footprint TS3B_L (D2-PAK, 4-Leads, Body 8.6x10.2mm, Pitch 2.54mm, Lead Span 14.2mm, IPC High Density)
footprint TS3B_M (D2-PAK, 4-Leads, Body 8.6x10.2mm, Pitch 2.54mm, Lead Span 14.2mm, IPC Low Density)
pins: 1 GND (power), 2 OUT (power), 3 IN (power), 4 TAB (power)